# Altium footprint library LKAS_EPS.PcbLib: 17 footprints (part 2 of 2)
Each footprint in its own frame and in the unit in brackets; x right, y up, seen from the top. Pads: shape width x height; smd on the part's side, far side on the other; paste and mask are expansions set on the pad; w line width, h text height; cw(c..) or ccw(c..) is an arc to the next point about the centre after c.
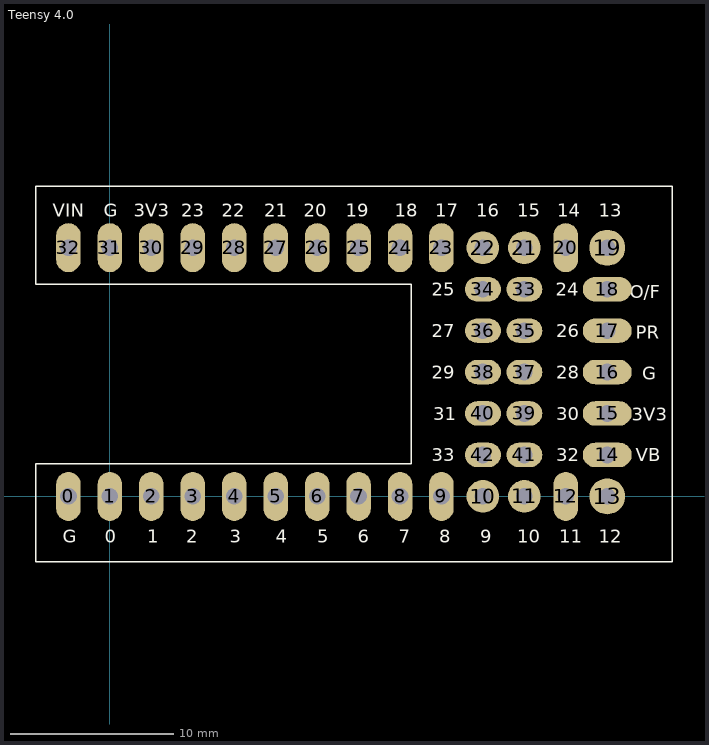
[diagram p1: the footprint, top view; thin cyan lines are the x and y axes]

## Teensy 4.0 [mm]
pads (43):
  oval 1.5x3 hole 1.02: 0(-2.54,0) 1(0,0) 2(2.54,0) 3(5.08,0) 4(7.62,0) 5(10.16,0) 6(12.7,0) 7(15.24,0) 8(17.78,0) 9(20.32,0) 12(27.94,0) 20(27.94,15.24) 23(20.32,15.24) 24(17.78,15.24) 25(15.24,15.24) 26(12.7,15.24) 27(10.16,15.24) 28(7.62,15.24) 29(5.08,15.24) 30(2.54,15.24) 31(0,15.24) 32(-2.54,15.24)
  round 2 hole 1.02: 10(22.86,0) 11(25.4,0) 21(25.4,15.24) 22(22.86,15.24)
  round 2.2 hole 1.02: 13(30.48,0) 19(30.48,15.24)
  oval 3x1.5 hole 1.02: 14(30.48,2.54) 15(30.48,5.08) 16(30.48,7.62) 17(30.48,10.16) 18(30.48,12.7)
  oval 2.2x1.5 hole 1.02: 33(25.4,12.7) 34(22.86,12.7) 35(25.4,10.16) 36(22.86,10.16) 37(25.4,7.62) 38(22.86,7.62) 39(25.4,5.08) 40(22.86,5.08) 41(25.4,2.54) 42(22.86,2.54)
Top Overlay:
  lines w0.1: -4.54,-4 34.46,-4 34.46,19 -4.54,19 -4.54,13 18.46,13 18.46,2 -4.54,2 -4.54,-4
  text "33" at 19.728,2.14 h0.8
  text "32" at 27.348,2.14 h0.8
  text "31" at 19.823,4.68 h0.8
  text "30" at 27.348,4.68 h0.8
  text "29" at 19.728,7.22 h0.8
  text "28" at 27.348,7.22 h0.8
  text "27" at 19.728,9.76 h0.8
  text "26" at 27.348,9.76 h0.8
  text "25" at 19.728,12.3 h0.8
  text "24" at 27.31,12.3 h0.8
  text "O/F" at 31.867,12.15 h0.8
  text "PR" at 32.24,9.65 h0.8
  text "G" at 32.617,7.15 h0.8
  text "3V3" at 31.974,4.65 h0.8
  text "VB" at 32.242,2.15 h0.8
  text "G" at -2.883,-2.85 h0.8
  text "0" at -0.307,-2.85 h0.8
  text "1" at 2.289,-2.85 h0.8
  text "2" at 4.693,-2.85 h0.8
  text "3" at 7.353,-2.85 h0.8
  text "4" at 10.155,-2.85 h0.8
  text "5" at 12.693,-2.85 h0.8
  text "6" at 15.193,-2.85 h0.8
  text "7" at 17.693,-2.85 h0.8
  text "8" at 20.193,-2.85 h0.8
  text "9" at 22.693,-2.85 h0.8
  text "10" at 24.953,-2.85 h0.8
  text "11" at 27.549,-2.85 h0.8
  text "12" at 29.953,-2.85 h0.8
  text "13" at 29.953,17.15 h0.8
  text "14" at 27.415,17.15 h0.8
  text "15" at 24.953,17.15 h0.8
  text "16" at 22.453,17.15 h0.8
  text "17" at 19.953,17.15 h0.8
  text "18" at 17.453,17.15 h0.8
  text "19" at 14.453,17.15 h0.8
  text "20" at 11.868,17.15 h0.8
  text "21" at 9.463,17.15 h0.8
  text "22" at 6.868,17.15 h0.8
  text "23" at 4.368,17.15 h0.8
  text "3V3" at 1.474,17.15 h0.8
  text "G" at -0.383,17.15 h0.8
  text "VIN" at -3.502,17.15 h0.8
3D body "Teensy_4.0_COL.stp": height 10.13, standoff 6, extent -5,-1.23 31.75,16.47
3D body "5 POS SSA-105-S-T.stp": height 6, standoff -3.68, extent 21.59,1.27 24.13,13.97
3D body "5 POS SSA-105-S-T.stp": height 6, standoff -3.68, extent 24.13,1.27 26.67,13.97
3D body "5 POS SSA-105-S-T.stp": height 6, standoff -3.68, extent 29.21,1.27 31.75,13.97
3D body "14 POS SSA-114-S-T.stp": height 6, standoff -3.68, extent -3.81,-1.27 31.75,1.27
3D body "14 POS SSA-114-S-T.stp": height 6, standoff -3.68, extent -3.81,13.97 31.75,16.51